# EAGLE library part BQ24095 (library ICs)
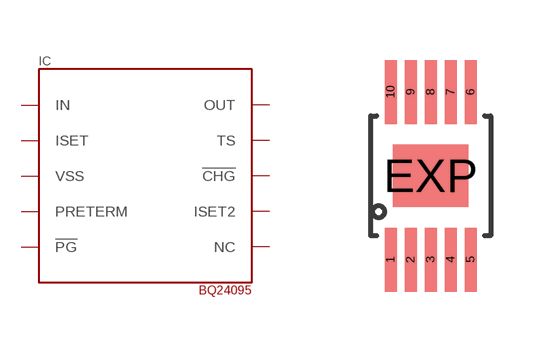
[diagram p1: symbol with the pads of DGQ; footprint DGQ]

Designator prefix IC

## BQ24095  [DGQ]
1  IN
2  ISET
3  VSS
4  PRETERM
5  !PG!
6  NC
7  ISET2
8  !CHG!
9  TS
10  OUT
EXP  VSS

## Footprint DGQ (pad centres in mm)
smd 0.3 x 1.6: 1 -1,-2.1; 2 -0.5,-2.1; 3 0,-2.1; 4 0.5,-2.1; 5 1,-2.1; 6 1,2.1; 7 0.5,2.1; 8 0,2.1; 9 -0.5,2.1; 10 -1,2.1
smd 1.88 x 1.57: EXP 0,0